# Altium schematic symbol library SCH - MCU - ATSAM - MICROCHIP SAML22N16A-CFU BGA100.SchLib: 1 symbol
Pins are listed as number, name and electrical type; pins without a type are passive.

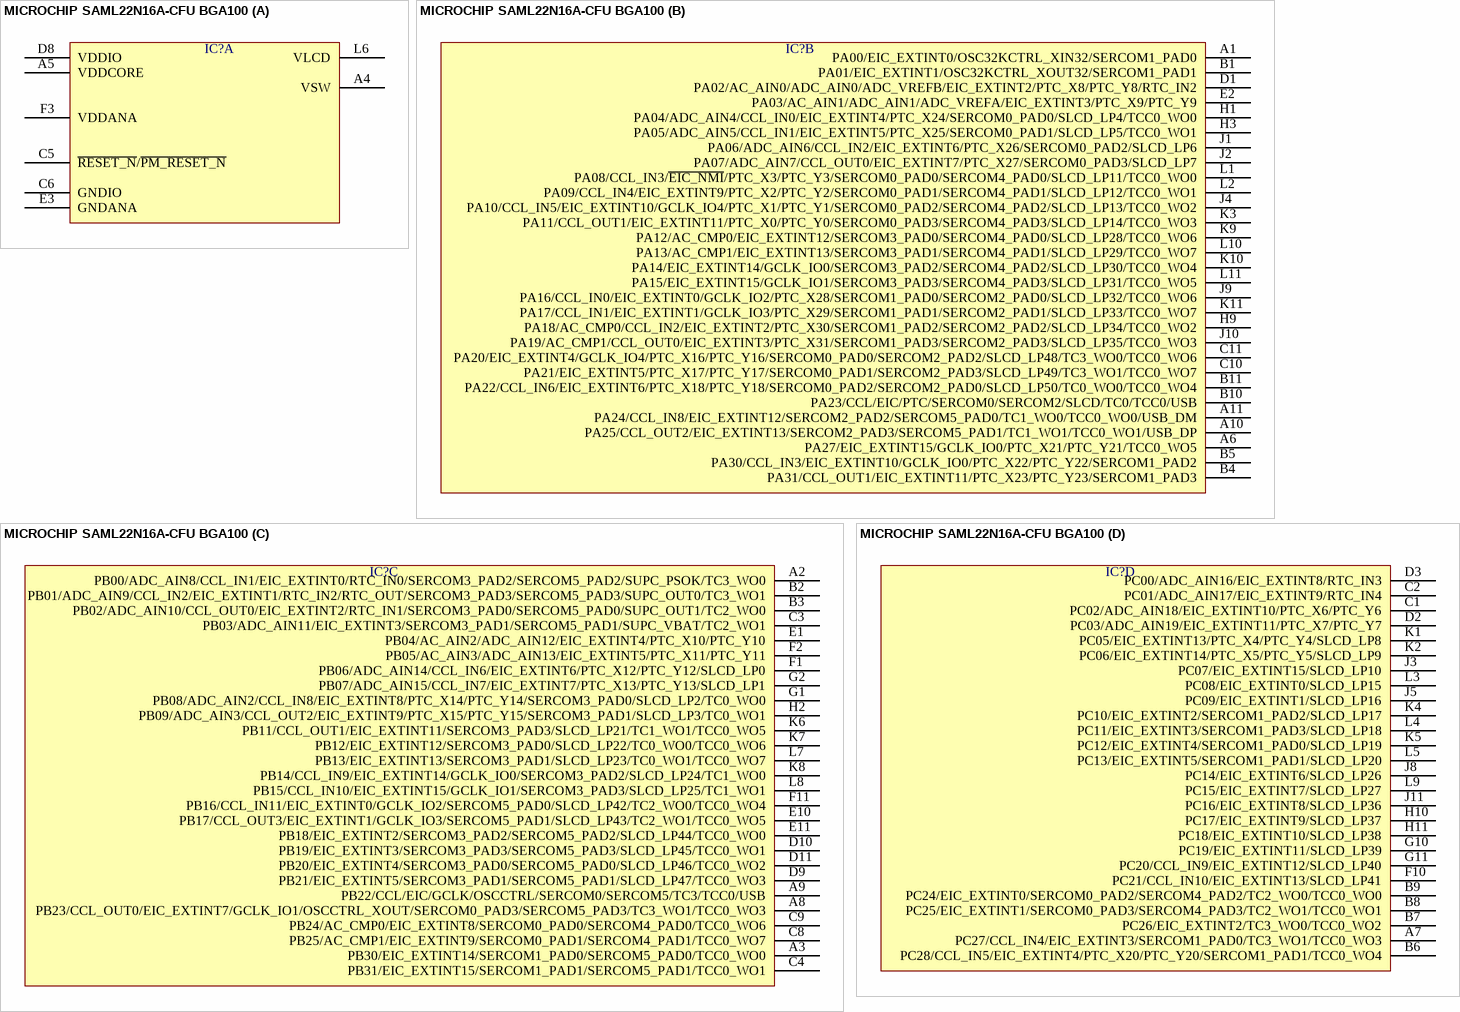
[diagram p0: symbol MICROCHIP SAML22N16A-CFU BGA100]

## MICROCHIP SAML22N16A-CFU BGA100
designator IC?  (value not drawn)
part A pins: A4 VSW, A5 VDDCORE, C5 ~{RESET_N}/~{PM_RESET_N}, C6 GNDIO, D8 VDDIO, E3 GNDANA, F3 VDDANA, L6 VLCD
part B pins: A1 PA00/EIC_EXTINT0/OSC32KCTRL_XIN32/SERCOM1_PAD0, A6 PA27/EIC_EXTINT15/GCLK_IO0/PTC_X21/PTC_Y21/TCC0_WO5, A10 PA25/CCL_OUT2/EIC_EXTINT13/SERCOM2_PAD3/SERCOM5_PAD1/TC1_WO1/TCC0_WO1/USB_DP, A11 PA24/CCL_IN8/EIC_EXTINT12/SERCOM2_PAD2/SERCOM5_PAD0/TC1_WO0/TCC0_WO0/USB_DM, B1 PA01/EIC_EXTINT1/OSC32KCTRL_XOUT32/SERCOM1_PAD1, B4 PA31/CCL_OUT1/EIC_EXTINT11/PTC_X23/PTC_Y23/SERCOM1_PAD3, B5 PA30/CCL_IN3/EIC_EXTINT10/GCLK_IO0/PTC_X22/PTC_Y22/SERCOM1_PAD2, B10 PA23/CCL/EIC/PTC/SERCOM0/SERCOM2/SLCD/TC0/TCC0/USB, B11 PA22/CCL_IN6/EIC_EXTINT6/PTC_X18/PTC_Y18/SERCOM0_PAD2/SERCOM2_PAD0/SLCD_LP50/TC0_WO0/TCC0_WO4, C10 PA21/EIC_EXTINT5/PTC_X17/PTC_Y17/SERCOM0_PAD1/SERCOM2_PAD3/SLCD_LP49/TC3_WO1/TCC0_WO7, C11 PA20/EIC_EXTINT4/GCLK_IO4/PTC_X16/PTC_Y16/SERCOM0_PAD0/SERCOM2_PAD2/SLCD_LP48/TC3_WO0/TCC0_WO6, D1 PA02/AC_AIN0/ADC_AIN0/ADC_VREFB/EIC_EXTINT2/PTC_X8/PTC_Y8/RTC_IN2, E2 PA03/AC_AIN1/ADC_AIN1/ADC_VREFA/EIC_EXTINT3/PTC_X9/PTC_Y9, H1 PA04/ADC_AIN4/CCL_IN0/EIC_EXTINT4/PTC_X24/SERCOM0_PAD0/SLCD_LP4/TCC0_WO0, H3 PA05/ADC_AIN5/CCL_IN1/EIC_EXTINT5/PTC_X25/SERCOM0_PAD1/SLCD_LP5/TCC0_WO1, H9 PA18/AC_CMP0/CCL_IN2/EIC_EXTINT2/PTC_X30/SERCOM1_PAD2/SERCOM2_PAD2/SLCD_LP34/TCC0_WO2, J1 PA06/ADC_AIN6/CCL_IN2/EIC_EXTINT6/PTC_X26/SERCOM0_PAD2/SLCD_LP6, J2 PA07/ADC_AIN7/CCL_OUT0/EIC_EXTINT7/PTC_X27/SERCOM0_PAD3/SLCD_LP7, J4 PA10/CCL_IN5/EIC_EXTINT10/GCLK_IO4/PTC_X1/PTC_Y1/SERCOM0_PAD2/SERCOM4_PAD2/SLCD_LP13/TCC0_WO2, J9 PA16/CCL_IN0/EIC_EXTINT0/GCLK_IO2/PTC_X28/SERCOM1_PAD0/SERCOM2_PAD0/SLCD_LP32/TCC0_WO6, J10 PA19/AC_CMP1/CCL_OUT0/EIC_EXTINT3/PTC_X31/SERCOM1_PAD3/SERCOM2_PAD3/SLCD_LP35/TCC0_WO3, K3 PA11/CCL_OUT1/EIC_EXTINT11/PTC_X0/PTC_Y0/SERCOM0_PAD3/SERCOM4_PAD3/SLCD_LP14/TCC0_WO3, K9 PA12/AC_CMP0/EIC_EXTINT12/SERCOM3_PAD0/SERCOM4_PAD0/SLCD_LP28/TCC0_WO6, K10 PA14/EIC_EXTINT14/GCLK_IO0/SERCOM3_PAD2/SERCOM4_PAD2/SLCD_LP30/TCC0_WO4, K11 PA17/CCL_IN1/EIC_EXTINT1/GCLK_IO3/PTC_X29/SERCOM1_PAD1/SERCOM2_PAD1/SLCD_LP33/TCC0_WO7, L1 PA08/CCL_IN3/~{EIC_NMI}/PTC_X3/PTC_Y3/SERCOM0_PAD0/SERCOM4_PAD0/SLCD_LP11/TCC0_WO0, L2 PA09/CCL_IN4/EIC_EXTINT9/PTC_X2/PTC_Y2/SERCOM0_PAD1/SERCOM4_PAD1/SLCD_LP12/TCC0_WO1, L10 PA13/AC_CMP1/EIC_EXTINT13/SERCOM3_PAD1/SERCOM4_PAD1/SLCD_LP29/TCC0_WO7, L11 PA15/EIC_EXTINT15/GCLK_IO1/SERCOM3_PAD3/SERCOM4_PAD3/SLCD_LP31/TCC0_WO5
part C pins: A2 PB00/ADC_AIN8/CCL_IN1/EIC_EXTINT0/RTC_IN0/SERCOM3_PAD2/SERCOM5_PAD2/SUPC_PSOK/TC3_WO0, A3 PB30/EIC_EXTINT14/SERCOM1_PAD0/SERCOM5_PAD0/TCC0_WO0, A8 PB23/CCL_OUT0/EIC_EXTINT7/GCLK_IO1/OSCCTRL_XOUT/SERCOM0_PAD3/SERCOM5_PAD3/TC3_WO1/TCC0_WO3, A9 PB22/CCL/EIC/GCLK/OSCCTRL/SERCOM0/SERCOM5/TC3/TCC0/USB, B2 PB01/ADC_AIN9/CCL_IN2/EIC_EXTINT1/RTC_IN2/RTC_OUT/SERCOM3_PAD3/SERCOM5_PAD3/SUPC_OUT0/TC3_WO1, B3 PB02/ADC_AIN10/CCL_OUT0/EIC_EXTINT2/RTC_IN1/SERCOM3_PAD0/SERCOM5_PAD0/SUPC_OUT1/TC2_WO0, C3 PB03/ADC_AIN11/EIC_EXTINT3/SERCOM3_PAD1/SERCOM5_PAD1/SUPC_VBAT/TC2_WO1, C4 PB31/EIC_EXTINT15/SERCOM1_PAD1/SERCOM5_PAD1/TCC0_WO1, C8 PB25/AC_CMP1/EIC_EXTINT9/SERCOM0_PAD1/SERCOM4_PAD1/TCC0_WO7, C9 PB24/AC_CMP0/EIC_EXTINT8/SERCOM0_PAD0/SERCOM4_PAD0/TCC0_WO6, D9 PB21/EIC_EXTINT5/SERCOM3_PAD1/SERCOM5_PAD1/SLCD_LP47/TCC0_WO3, D10 PB19/EIC_EXTINT3/SERCOM3_PAD3/SERCOM5_PAD3/SLCD_LP45/TCC0_WO1, D11 PB20/EIC_EXTINT4/SERCOM3_PAD0/SERCOM5_PAD0/SLCD_LP46/TCC0_WO2, E1 PB04/AC_AIN2/ADC_AIN12/EIC_EXTINT4/PTC_X10/PTC_Y10, E10 PB17/CCL_OUT3/EIC_EXTINT1/GCLK_IO3/SERCOM5_PAD1/SLCD_LP43/TC2_WO1/TCC0_WO5, E11 PB18/EIC_EXTINT2/SERCOM3_PAD2/SERCOM5_PAD2/SLCD_LP44/TCC0_WO0, F1 PB06/ADC_AIN14/CCL_IN6/EIC_EXTINT6/PTC_X12/PTC_Y12/SLCD_LP0, F2 PB05/AC_AIN3/ADC_AIN13/EIC_EXTINT5/PTC_X11/PTC_Y11, F11 PB16/CCL_IN11/EIC_EXTINT0/GCLK_IO2/SERCOM5_PAD0/SLCD_LP42/TC2_WO0/TCC0_WO4, G1 PB08/ADC_AIN2/CCL_IN8/EIC_EXTINT8/PTC_X14/PTC_Y14/SERCOM3_PAD0/SLCD_LP2/TC0_WO0, G2 PB07/ADC_AIN15/CCL_IN7/EIC_EXTINT7/PTC_X13/PTC_Y13/SLCD_LP1, H2 PB09/ADC_AIN3/CCL_OUT2/EIC_EXTINT9/PTC_X15/PTC_Y15/SERCOM3_PAD1/SLCD_LP3/TC0_WO1, K6 PB11/CCL_OUT1/EIC_EXTINT11/SERCOM3_PAD3/SLCD_LP21/TC1_WO1/TCC0_WO5, K7 PB12/EIC_EXTINT12/SERCOM3_PAD0/SLCD_LP22/TC0_WO0/TCC0_WO6, K8 PB14/CCL_IN9/EIC_EXTINT14/GCLK_IO0/SERCOM3_PAD2/SLCD_LP24/TC1_WO0, L7 PB13/EIC_EXTINT13/SERCOM3_PAD1/SLCD_LP23/TC0_WO1/TCC0_WO7, L8 PB15/CCL_IN10/EIC_EXTINT15/GCLK_IO1/SERCOM3_PAD3/SLCD_LP25/TC1_WO1
part D pins: A7 PC27/CCL_IN4/EIC_EXTINT3/SERCOM1_PAD0/TC3_WO1/TCC0_WO3, B6 PC28/CCL_IN5/EIC_EXTINT4/PTC_X20/PTC_Y20/SERCOM1_PAD1/TCC0_WO4, B7 PC26/EIC_EXTINT2/TC3_WO0/TCC0_WO2, B8 PC25/EIC_EXTINT1/SERCOM0_PAD3/SERCOM4_PAD3/TC2_WO1/TCC0_WO1, B9 PC24/EIC_EXTINT0/SERCOM0_PAD2/SERCOM4_PAD2/TC2_WO0/TCC0_WO0, C1 PC02/ADC_AIN18/EIC_EXTINT10/PTC_X6/PTC_Y6, C2 PC01/ADC_AIN17/EIC_EXTINT9/RTC_IN4, D2 PC03/ADC_AIN19/EIC_EXTINT11/PTC_X7/PTC_Y7, D3 PC00/ADC_AIN16/EIC_EXTINT8/RTC_IN3, F10 PC21/CCL_IN10/EIC_EXTINT13/SLCD_LP41, G10 PC19/EIC_EXTINT11/SLCD_LP39, G11 PC20/CCL_IN9/EIC_EXTINT12/SLCD_LP40, H10 PC17/EIC_EXTINT9/SLCD_LP37, H11 PC18/EIC_EXTINT10/SLCD_LP38, J3 PC07/EIC_EXTINT15/SLCD_LP10, J5 PC09/EIC_EXTINT1/SLCD_LP16, J8 PC14/EIC_EXTINT6/SLCD_LP26, J11 PC16/EIC_EXTINT8/SLCD_LP36, K1 PC05/EIC_EXTINT13/PTC_X4/PTC_Y4/SLCD_LP8, K2 PC06/EIC_EXTINT14/PTC_X5/PTC_Y5/SLCD_LP9, K4 PC10/EIC_EXTINT2/SERCOM1_PAD2/SLCD_LP17, K5 PC12/EIC_EXTINT4/SERCOM1_PAD0/SLCD_LP19, L3 PC08/EIC_EXTINT0/SLCD_LP15, L4 PC11/EIC_EXTINT3/SERCOM1_PAD3/SLCD_LP18, L5 PC13/EIC_EXTINT5/SERCOM1_PAD1/SLCD_LP20, L9 PC15/EIC_EXTINT7/SLCD_LP27